# EAGLE library part CCR2541 (library deiring-components)
Bluetooth Transceiver
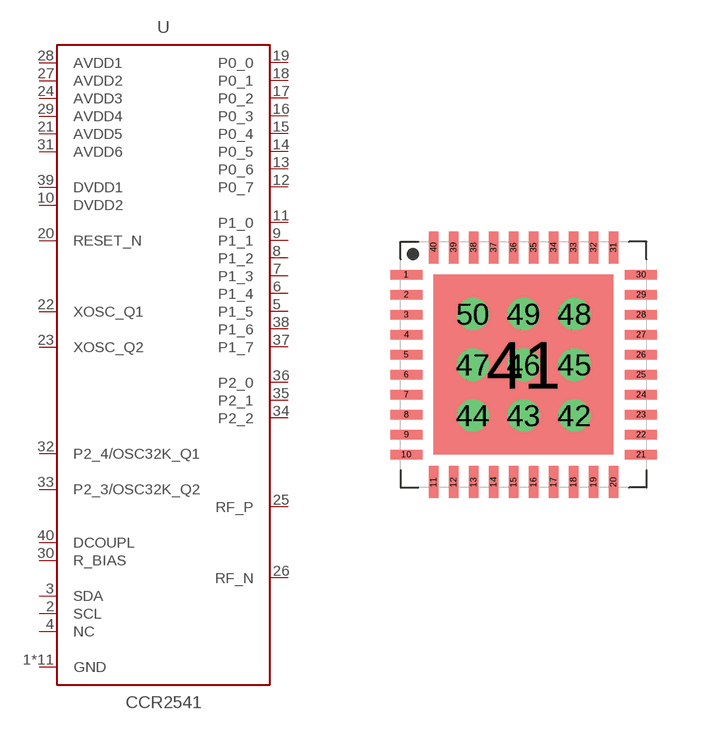
[diagram p6: symbol with the pads of QFN-40; footprint QFN-40]

Designator prefix U

## CCR2541-QFN-40 (LCSC: C22206; MF: Texas Instruments; MPN: CC2541F256RHAR; VALUE: CC2541)  [QFN-40]
1  GND  pwr
2  SCL
3  SDA
4  NC
5  P1_5
6  P1_4
7  P1_3
8  P1_2
9  P1_1
10  DVDD2  pwr
11  P1_0
12  P0_7
13  P0_6
14  P0_5
15  P0_4
16  P0_3
17  P0_2
18  P0_1
19  P0_0
20  RESET_N
21  AVDD5  pwr
22  XOSC_Q1
23  XOSC_Q2
24  AVDD3  pwr
25  RF_P
26  RF_N
27  AVDD2  pwr
28  AVDD1  pwr
29  AVDD4  pwr
30  R_BIAS
31  AVDD6  pwr
32  P2_4/OSC32K_Q1
33  P2_3/OSC32K_Q2
34  P2_2
35  P2_1
36  P2_0
37  P1_7
38  P1_6
39  DVDD1  pwr
40  DCOUPL
41  GND  pwr
42  GND  pwr
43  GND  pwr
44  GND  pwr
45  GND  pwr
46  GND  pwr
47  GND  pwr
48  GND  pwr
49  GND  pwr
50  GND  pwr

## Footprint QFN-40 (pad centres in mm)
smd 0.8 x 0.23: 1 -2.937,2.25; 2 -2.937,1.75; 3 -2.937,1.25; 4 -2.937,0.75; 5 -2.937,0.25; 6 -2.937,-0.25; 7 -2.937,-0.75; 8 -2.937,-1.25; 9 -2.937,-1.75; 10 -2.937,-2.25; 21 2.937,-2.25; 22 2.937,-1.75; 23 2.937,-1.25; 24 2.937,-0.75; 25 2.937,-0.25; 26 2.937,0.25; 27 2.937,0.75; 28 2.937,1.25; 29 2.937,1.75; 30 2.937,2.25
smd 0.23 x 0.8: 11 -2.25,-2.937; 12 -1.75,-2.937; 13 -1.25,-2.937; 14 -0.75,-2.937; 15 -0.25,-2.937; 16 0.25,-2.937; 17 0.75,-2.937; 18 1.25,-2.937; 19 1.75,-2.937; 20 2.25,-2.937; 31 2.25,2.937; 32 1.75,2.937; 33 1.25,2.937; 34 0.75,2.937; 35 0.25,2.937; 36 -0.25,2.937; 37 -0.75,2.937; 38 -1.25,2.937; 39 -1.75,2.937; 40 -2.25,2.937
smd 4.5 x 4.5: 41 0,0
drill 0.3 pad 0.5: 42 1.27,-1.27; 43 0,-1.27; 44 -1.27,-1.27; 45 1.27,0; 46 0,0; 47 -1.27,0; 48 1.27,1.27; 49 0,1.27; 50 -1.27,1.27